# Altium schematic symbol library Giang_Schematic_Libs.SchLib: 12 symbols
Pins are listed as number, name and electrical type; pins without a type are passive.

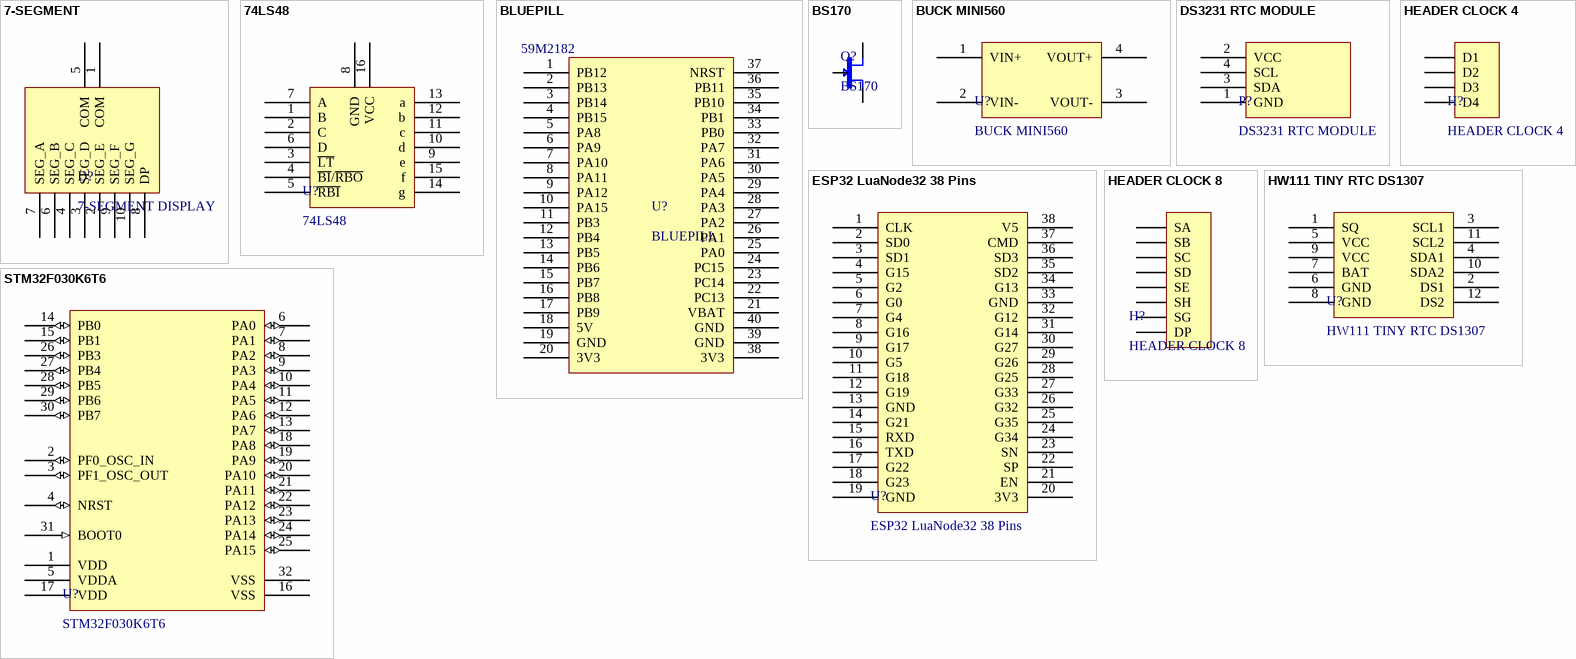
[diagram p0: symbols 7-SEGMENT to STM32F030K6T6]

## 7-SEGMENT
designator D?, comment 7-SEGMENT DISPLAY
footprint 7-SEGMENT
pins: 1 COM, 2 SEG_E, 3 SEG_D, 4 SEG_C, 5 COM, 6 SEG_B, 7 SEG_A, 8 DP, 9 SEG_F, 10 SEG_G

## 74LS48
designator U?
74LS48 - ACTIVE HIGH
footprint 74LS48
pins: 1 B, 2 C, 3 ~{LT}, 4 ~{BI}/~{RBO}, 5 ~{RBI}, 6 D, 7 A, 8 GND, 9 e, 10 d, 11 c, 12 b, 13 a, 14 g, 15 f, 16 VCC

## BLUEPILL
designator U?  Supplier Part Number 1: 59M2182
Development board STM32F103C8T6; Supplier 1: Newark
footprint BLUEPILL
pins: 1 PB12, 2 PB13, 3 PB14, 4 PB15, 5 PA8, 6 PA9, 7 PA10, 8 PA11, 9 PA12, 10 PA15, 11 PB3, 12 PB4, 13 PB5, 14 PB6, 15 PB7, 16 PB8, 17 PB9, 18 5V, 19 GND, 20 3V3, 21 VBAT, 22 PC13, 23 PC14, 24 PC15, 25 PA0, 26 PA1, 27 PA2, 28 PA3, 29 PA4, 30 PA5, 31 PA6, 32 PA7, 33 PB0, 34 PB1, 35 PB10, 36 PB11, 37 NRST, 38 3V3, 39 GND, 40 GND

## BS170
designator Q?
footprint BS170 (N-Channel Enhancement Mode Field Effect Transistor)
pins: 1 D, 2 S, 3 G

## BUCK MINI560
designator U?
MODULE BUCK MINI560
footprint BUCK MINI560
pins: 1 VIN+, 2 VIN-, 3 VOUT-, 4 VOUT+

## DS3231 RTC MODULE
designator P?
footprint DS3231 RTC MODULE
pins: 1 GND, 2 VCC, 3 SDA, 4 SCL

## ESP32 LuaNode32 38 Pins
designator U?
ESP32 NodeMCU LuaNode32 38 Pins
footprint ESP32 LuaNode32 38 Pins
pins: 1 CLK, 2 SD0, 3 SD1, 4 G15, 5 G2, 6 G0, 7 G4, 8 G16, 9 G17, 10 G5, 11 G18, 12 G19, 13 GND, 14 G21, 15 RXD, 16 TXD, 17 G22, 18 G23, 19 GND, 20 3V3, 21 EN, 22 SP, 23 SN, 24 G34, 25 G35, 26 G32, 27 G33, 28 G25, 29 G26, 30 G27, 31 G14, 32 G12, 33 GND, 34 G13, 35 SD2, 36 SD3, 37 CMD, 38 V5

## HEADER CLOCK 4
designator H?
footprint HEADER CLOCK
pins: 1 D1, 2 D2, 3 D3, 4 D4

## HEADER CLOCK 8
designator H?
footprint HEADER CLOCK 8
pins: 1 SA, 2 SB, 3 SC, 4 SD, 5 SE, 6 SH, 7 SG, 8 DP

## HW111 TINY RTC DS1307
designator U?
footprint HW111 TINY RTC DS1307
pins: 1 SQ, 2 DS1, 3 SCL1, 4 SDA1, 5 VCC, 6 GND, 7 BAT, 8 GND, 9 VCC, 10 SDA2, 11 SCL2, 12 DS2

## STAMPHOLE
designator *  (value not drawn)
footprint STAMP HOLE

## STM32F030K6T6
designator U?
ARM Cortex M0 Microcontroller IC 32-Bit 48MHz 32KB FLASH, 32-LQFP; Mfr: STMicroelectronics; Number of I/O: 26; Program Memory Size: 32KB (32K x 8); Connectivity: I²C, SPI, UART/USART; Peripherals: DMA, POR, PWM, WDT; Speed: 48MHz; Package / Case: 32-LQFP; Program Memory Type1: FLASH
footprint STM32F030K6T6 (ARM Cortex M0 Microcontroller IC 32-Bit 48MHz 32KB FLASH, 32-LQFP)
pins: 1 VDD (power), 2 PF0_OSC_IN (io), 3 PF1_OSC_OUT (io), 4 NRST (io), 5 VDDA (power), 6 PA0 (io), 7 PA1 (io), 8 PA2 (io), 9 PA3 (io), 10 PA4 (io), 11 PA5 (io), 12 PA6 (io), 13 PA7 (io), 14 PB0 (io), 15 PB1 (io), 16 VSS (power), 17 VDD (power), 18 PA8 (io), 19 PA9 (io), 20 PA10 (io), 21 PA11 (io), 22 PA12 (io), 23 PA13 (io), 24 PA14 (io), 25 PA15 (io), 26 PB3 (io), 27 PB4 (io), 28 PB5 (io), 29 PB6 (io), 30 PB7 (io), 31 BOOT0 (in), 32 VSS (power)